# Altium schematic symbol library SM02B-PASS-TBTLFSN.SchLib: 1 symbol
Pins are listed as number, name and electrical type; pins without a type are passive.

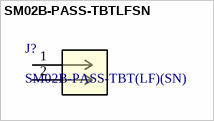
[diagram p0: symbol SM02B-PASS-TBTLFSN]

## SM02B-PASS-TBTLFSN
designator J?, comment SM02B-PASS-TBT(LF)(SN)
Description; Manufacturer_Name: JST; Copyright: Copyright (C) 2025 Ultra Librarian. All rights reserved.; Manufacturer_Part_Number: SM02B-PASS-TBT(LF)(SN); RefDes: RefDes; Type: Type
footprint CONN_SM02B-PASS_JST
pins: 1, 2